# EAGLE library part TDC-GP-21-BOARD (library NEON-BLADE-2024)
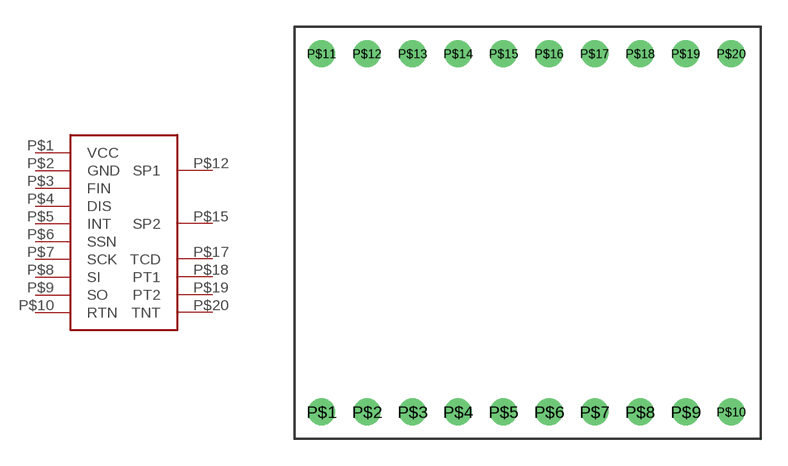
[diagram p44: symbol with the pads of TDC-GP21_BOARD; footprint TDC-GP21_BOARD]

Designator prefix -

## TDC-GP-21-BOARD  [TDC-GP21_BOARD]
P$1  VCC
P$2  GND
P$3  FIN
P$4  DIS
P$5  INT
P$6  SSN
P$7  SCK
P$8  SI
P$9  SO
P$10  RTN
P$12  SP1
P$15  SP2
P$17  TCD
P$18  PT1
P$19  PT2
P$20  TNT

## Footprint TDC-GP21_BOARD (pad centres in mm)
drill 1: P$1 -11.5,-10; P$2 -8.96,-10; P$3 -6.42,-10; P$4 -3.88,-10; P$5 -1.34,-10; P$6 1.2,-10; P$7 3.74,-10; P$8 6.28,-10; P$9 8.82,-10; P$10 11.36,-10; P$11 -11.5,10; P$12 -8.96,10; P$13 -6.42,10; P$14 -3.88,10; P$15 -1.34,10; P$16 1.2,10; P$17 3.74,10; P$18 6.28,10; P$19 8.82,10; P$20 11.36,10